# EAGLE library part 750311771 (library 750311771)
Power Transformers WE-FB Flyback 500uH 3A 15V Source: Datasheet <https://katalog.we-online.com/pbs/datasheet/750311771.pdf>
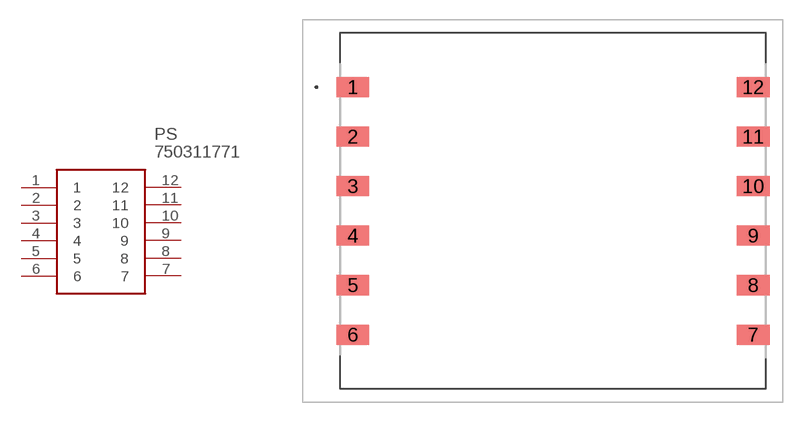
[diagram p0: symbol with the pads of 750311771; footprint 750311771]

Designator prefix PS

## 750311771 (Description: Power Transformers WE-FB Flyback 500uH 3A 15V; Height: 13.69mm; Manufacturer_Name: Wurth Elektronik; Manufacturer_Part_Number: 750311771; Mouser_Part_Number: 710-750311771; Mouser_Price-Stock: https://www.mouser.co.uk/ProductDetail/Wurth-Elektronik/750311771?qs=J4sk5G6CMwYUnCXRsU%2FeCw%3D%3D)  [750311771]
1  1
2  2
3  3
4  4
5  5
6  6
7  7
8  8
9  9
10  10
11  11
12  12

## Footprint 750311771 (pad centres in mm)
750311771-1
smd 2.5 x 1.52: 1 -15.19,9.4; 2 -15.19,5.64; 3 -15.19,1.88; 4 -15.19,-1.88; 5 -15.19,-5.64; 6 -15.19,-9.4; 7 15.19,-9.4; 8 15.19,-5.64; 9 15.19,-1.88; 10 15.19,1.88; 11 15.19,5.64; 12 15.19,9.4